# Altium schematic symbol library Schlib0.SchLib: 8 symbols
Pins are listed as number, name and electrical type; pins without a type are passive.

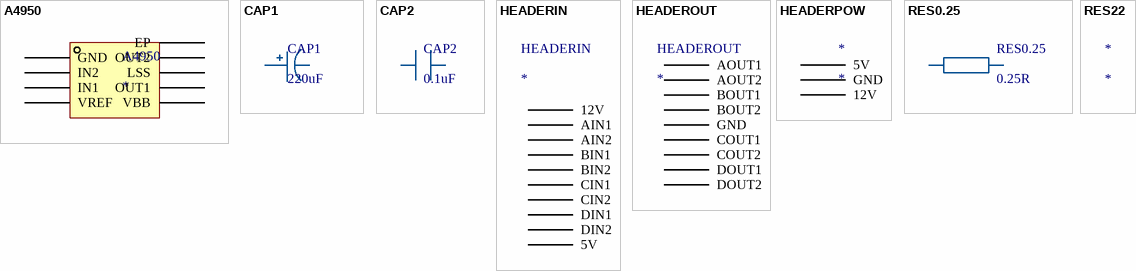
[diagram p0: symbols A4950 to RES22]

## A4950
designator A4950
footprint A4950
pins: EP, GND, IN1, IN2, LSS, OUT1, OUT2, VBB, VREF

## CAP1
designator CAP1, comment 220uF
footprint CAP1
pins: C+, C-

## CAP2
designator CAP2, comment 0.1uF
footprint CAP2
pins: C1, C2

## HEADERIN
designator HEADERIN
footprint HEADERIN
pins: 5V, 12V, AIN1, AIN2, BIN1, BIN2, CIN1, CIN2, DIN1, DIN2

## HEADEROUT
designator HEADEROUT
footprint HEADEROUT
pins: AOUT1, AOUT2, BOUT1, BOUT2, COUT1, COUT2, DOUT1, DOUT2, GND

## HEADERPOW
designator *
footprint HEADERPOW
pins: 5V, 12V, GND

## RES0.25
designator RES0.25, comment 0.25R
footprint RES2512
pins: R1, R2

## RES22
designator *